# Altium footprint library PcbLib1.PcbLib: 22 footprints (part 2 of 2)
Each footprint in its own frame and in the unit in brackets; x right, y up, seen from the top. Pads: shape width x height; smd on the part's side, far side on the other; paste and mask are expansions set on the pad; w line width, h text height; cw(c..) or ccw(c..) is an arc to the next point about the centre after c.
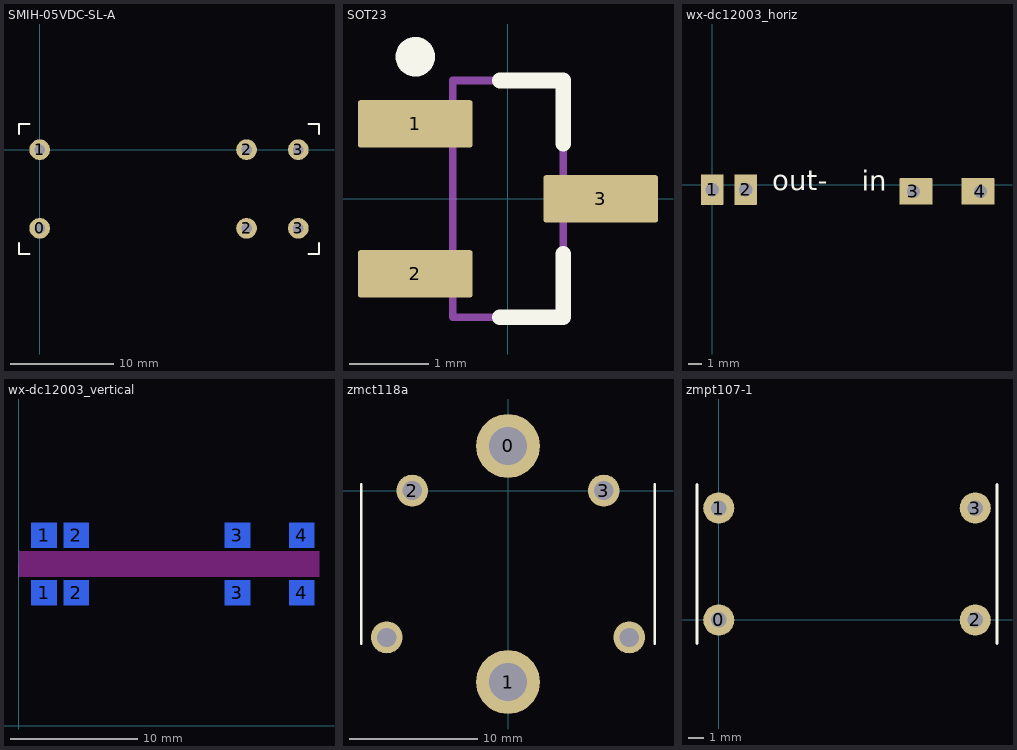
[diagram p1: the footprints below, top view; thin cyan lines are the x and y axes]

## SMIH-05VDC-SL-A [mm]
height 21
pads (6):
  round 2 hole 1: 0(0,-7.6) 1(0,0) 2(20,-7.6) 2(20,0) 3(25,-7.6) 3(25,0)
Top Overlay:
  lines w0.2: -2,-9 -2,-10.1 -1,-10.1 ; -2,1.5 -2,2.5 -1,2.5 ; 26,-10.1 27,-10.1 27,-9 ; 26,2.5 27,2.5 27,1.5
3D body: height 21, standoff 0, extent -2,-10.075 27,2.525

## SOT23 [mm]
pads (3):
  rrect10% 1.45x0.6 smd: 1(-1.175,0.95) 2(-1.175,-0.95) 3(1.175,0)
Top Overlay:
  circle w0.25: c-1.175,1.8 r0.125
  lines w0.2: -0.1,-1.5 0.7,-1.5 0.7,-0.7 ; -0.1,1.5 0.7,1.5 0.7,0.7
Mechanical 13:
  lines w0.1: -0.7,-1.5 -0.7,1.5 0.7,1.5 0.7,-1.5 -0.7,-1.5
3D body: height 1.1, standoff 0, extent -0.7,-1.5 0.7,1.5

## wx-dc12003_horiz [mm]
height 13.1
pads (4):
  rrect5% 1.7x2.3 hole 1: 1(0,-0.381) 2(2.54,-0.381)
  rrect5% 2.5x2 hole 1 copper offset 0.2,0: 3(15.24,-0.508)
  rrect5% 2.5x2 hole 1 copper offset -0.2,0: 4(20.32,-0.508)
Top Overlay:
  text "out-" at 4.55,-0.421 h1.52
  text "in" at 11.325,-0.471 h1.52
3D body: height 1.6, standoff 0, extent -1.997,-1.725 21.475,16.779
3D body: height 2.6, standoff 1.6, extent -1.788,9.779 -0.313,13.529
3D body: height 2.6, standoff 1.6, extent 3.825,15.041 7.575,16.516
3D body: height 2.6, standoff 1.6, extent 0.55,10.529 2.787,15.329
3D body: height 2.6, standoff 1.6, extent 13.575,2.042 17.325,3.517
3D body: height 2.6, standoff 1.6, extent -1.1,2.242 2.65,3.717
3D body: height 10.6, standoff 1.6, extent 3.514,2.397 13.217,13.829
3D body: height 9.6, standoff 1.6, extent 13.45,3.729 21.45,16.729
3D body: height 11.6, standoff 1.6, extent -1.775,4.107 3.225,9.101
3D body: height 10.1, standoff 3.1, extent 4.725,3.754 11.725,12.354

## wx-dc12003_vertical [mm]
height 15.1
pads (8):
  rect 2x2 smd far side: 1(1.975,10.475) 1(1.975,15) 2(4.515,10.475) 2(4.515,15) 3(17.215,10.475) 3(17.215,15) 4(22.295,10.475) 4(22.295,15)
Bottom Overlay:
  text "in" at 14.9,10 h1.52
  text "out-" at 11.375,9.95 h1.52
Keep-Out Layer:
  board cut-out: 0.025,13.775 0.075,13.725 23.65,13.725 23.65,11.75 4.975,11.75 0,11.75
3D body: height 16.24, standoff -2.24, extent 0.1,11.85 23.575,13.45
3D body: height 12.37, standoff 8.62, extent 0.587,10.7 2.062,11.7
3D body: height 13.4, standoff 8.6, extent 2.356,10.65 4.594,11.65
3D body: height 15.74, standoff 14.26, extent 6.55,10.55 10.3,11.55
3D body: height 13.72, standoff 2.29, extent 5.8,2.675 15.503,11.675
3D body: height 15.5, standoff 2.5, extent 15.7,3.653 23.7,11.647
3D body: height 7.5, standoff 2.5, extent 0.325,1.8 5.325,11.8
3D body: height 12.1, standoff 3.5, extent 7.025,2.353 14.025,9.347

## zmct118a [mm]
height 24.4
pads (6):
  round 5 hole 3: 0(0,3.5) 1(0,-15)
  round 2.5 hole 1.5: 2(-7.5,0) 3(7.5,0) ""(-9.5,-11.5) ""(9.5,-11.5)
Top Overlay:
  lines w0.2: -11.5,-12 -11.5,0.5 ; 11.5,-12 11.5,0.5
3D body: height 24, standoff 1, extent -11.475,-11.975 11.525,0.525
3D body: height 13, standoff 0, extent -11.475,-11.975 11.525,0.525

## zmpt107-1 [mm]
height 18.2
pads (4):
  round 2 hole 1: 0(0,0) 1(0,7.2) 2(16.5,0) 3(16.5,7.2)
Top Overlay:
  lines w0.2: -1.4,-1.5 -1.4,8.7 ; 17.9,-1.5 17.9,8.7
3D body: height 18.2, standoff 0, extent -1.4,-1.5 17.9,8.7